# Altium schematic symbol library BD33HC5WEFJ-E2.SchLib: 1 symbol
Pins are listed as number, name and electrical type; pins without a type are passive.

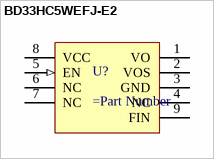
[diagram p0: symbol BD33HC5WEFJ-E2]

## BD33HC5WEFJ-E2
designator U?
=Description; Manufacturer: Rohm; Manufacturer Part Number: BD33HC5WEFJ-E2; Package Body Material: Plastic; Adjustability: FIXED; Dropout Voltage1-Max: 930mV; Dropout Voltage1-Nom: 600mV; Input Voltage Absolute-Max: 10V; Max Supply Voltage: 8V; Min Input Voltage: 4.5V; Line Regulation-Max: 0.033%; Load Regulation-Max: 0.0495%; Channels: 1; Output Current1-Max: 1.5A; Output Voltage1-Max: 3.333V; Output Voltage1-Min: 3.267V; Output Voltage1-Nom: 3.3V; Regulator Type: FIXED POSITIVE SINGLE OUTPUT LDO REGULATOR; Voltage Tolerance-Max: 1%; Qualification Status: Not Qualified; Supplier: Newark; Supplier Part Number: 01AH6444; RoHS: Yes; Category: Voltage Regulators - Linear; Stock: 3302; Pricing: 1=1.26, 10=1.1, 25=1.04, 50=0.937, 100=0.843, 250=0.783, 500=0.666, 1000=0.533 (CAD); Case/Package: VSOP; Pins: 8; Package Shape: Rectangular; JESD-30 Code: R-PDSO-G8; Number of Outputs: 1; Operating Temperature, TJ-Max: 150°C; Package Style: SMALL OUTLINE, VERY THIN PROFILEMeter; Packaging: Tape and Reel; Surface Mount: Yes; Technology: CMOS; Terminal Form: Gull Wing; Terminal Position: DUAL; Length: 4.9mm; Width: 3.9mm; Height - Seated (Max): 1mm; Terminal Pitch: 1.27mm; Reach SVHC Compliant: Yes; RoHS Compliant: Yes; ComponentLink1URL: https://datasheet.ciiva.com:443/pdfs/VipMasterIC/IC/ROHM/ROHM-S-A0001071738/ROHM-S-A0001071738-1.pdf?src-supplier=IHS+Markit; ComponentLink1Description: https://datasheet.ciiva.com:443/pdfs/VipMasterIC/IC/ROHM/ROHM-S-A0001071738/ROHM-S-A0001071738-1.pdf?src-supplier=IHS+Markit; ComponentLink2URL: https://datasheet.ciiva.com/12220/bd33hc5wefj-215385-12220893.pdf?src-supplier=Mouser; ComponentLink2Description: https://datasheet.ciiva.com/12220/bd33hc5wefj-215385-12220893.pdf?src-supplier=Mouser; ComponentLink3URL: https://datasheet.ciiva.com/6584/bdxxhc5wefj-e-6584297.pdf?src-supplier=Digi-Key; ComponentLink3Description: https://datasheet.ciiva.com/6584/bdxxhc5wefj-e-6584297.pdf?src-supplier=Digi-Key; ComponentLink4URL: https://datasheet.ciiva.com/6584/bdxxhc5wefj-e-6584298.pdf?src-supplier=Digi-Key; ComponentLink4Description: https://datasheet.ciiva.com/6584/bdxxhc5wefj-e-6584298.pdf?src-supplier=Digi-Key; ComponentLink5URL: https://datasheet.ciiva.com/6584/bdxxhc5wefj-e-6584301.pdf?src-supplier=Digi-Key; ComponentLink5Description: https://datasheet.ciiva.com/6584/bdxxhc5wefj-e-6584301.pdf?src-supplier=Digi-Key
pins: 1 VO (power), 2 VOS, 3 GND (power), 4 NC, 5 EN (in), 6 NC, 7 NC, 8 VCC (power), 9 FIN